# Altium integrated library 10118192-0001LF.IntLib: 1 symbol
Pins are listed as number, name and electrical type; pins without a type are passive.

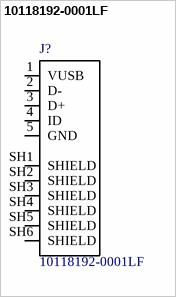
[diagram p0: symbol 10118192-0001LF]

## 10118192-0001LF
designator J?
Single Port 5 Contact Horizontal Right Angle Shielded Micro B USB 2.0 Connector; MF: Amphenol ICC; SnapEDA_Link: https://www.snapeda.com/parts/10118192-0001LF/Amphenol%20ICC/view-part/?ref=snap; Availability: Unavailable; Price: None; Package: None; MP: 10118192-0001LF; Value: *
footprint *AMPHENOL_10118192-0001LF_10118192-0001LF(Primary)
pins: 1 VUSB, 2 D-, 3 D+, 4 ID, 5 GND, SH1 SHIELD, SH2 SHIELD, SH3 SHIELD, SH4 SHIELD, SH5 SHIELD, SH6 SHIELD